# Altium integrated library AQ7538-08UTG.IntLib: 8 symbols
Pins are listed as number, name and electrical type; pins without a type are passive.

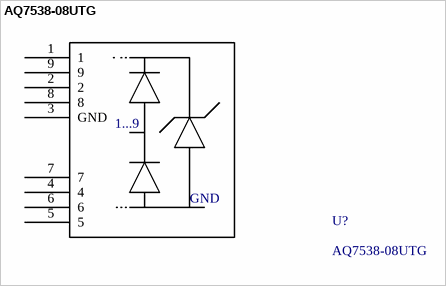
[diagram p0: symbol AQ7538-08UTG]

## AQ7538-08UTG
designator U?
footprint PCBComponent_1
footprint PCBComponent_1
pins: 1, 2, 3 GND, 4, 5, 6, 7, 8, 9
text: 1...9


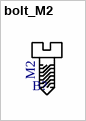
[diagram p1: symbol bolt_M2]

## bolt_M2
designator B?  (value not drawn)
footprint bolt_M2
pins: 20
text: M2


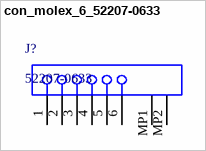
[diagram p2: symbol con_molex_6_52207-0633]

## con_molex_6_52207-0633
designator J?, comment 52207-0633
1.0 mm Pitch Easy-On(TM) Type FPC Connector, 2.7 mm Mated Height, Right Angle, ZIF, SMT, Top Contact, 6 Circuits, -40 to 85 degC, ELV and RoHS Compliant, Tape and Reel; Manufacturer: Molex; PCB Locator: No; Material - Plating Mating: Silver, Tin-Bismuth; Pitch - Termination Interface: 1.00mm; Voltage (Max): 125V; Current (Max per Contact): 1A; Mated Height: 2.70mm; Durability (mating cycles max): 30; PCB Retention: Yes; Material - Metal: Phosphor Bronze; Circuits (Loaded): 6; Entry Angle: 90degrees Angle; Stackable: No; ComponentLink1URL: http://www.molex.com/molex/index.jsp; Packing: Tape and Reel; PackageReference: 52207-0633; Mounting Technology: Surface Mount; Pitch - Mating Interface: 1.00mm; ComponentLink3URL: http://www.molex.com/pdm_docs/sd/522070633_sd.pdf; ComponentLink1Description: Manufacturer URL; RoHS: TRUE; Contact Position: Top; ComponentLink2URL: http://www.molex.com/webdocs/datasheets/pdf/en-us/0522070633_FFC_FPC_CONNECTORS.pdf; ComponentLink3Description: Package Specification; PackageDescription: 6-Lead FPC Connector, Pitch 1.0 mm; PackageVersion: Rev. B, 08/2013; PartNumber: 52207-0633; Number of Rows: 1; Polarized to PCB: Yes; Orientation: Right Angle; ComponentLink2Description: Datasheet; Material - Plating Termination: Silver, Tin-Bismuth
footprint SEB_MOLeX_6p (52207-0633)
pins: 1, 2, 3, 4, 5, 6, MP1, MP2


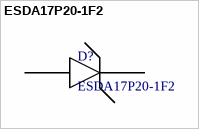
[diagram p3: symbol ESDA17P20-1F2]

## ESDA17P20-1F2
designator D?
footprint ESDA17P20-1F2
pins: 18 A, 19 K


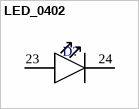
[diagram p4: symbol LED_0402]

## LED_0402
designator D?  (value not drawn)
footprint LED_0402
pins: 23, 24


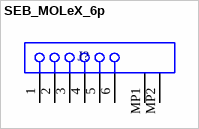
[diagram p5: symbol SEB_MOLeX_6p]

## SEB_MOLeX_6p
designator J?
footprint SEB_MOLeX_6p (52207-0633)
pins: 1, 2, 3, 4, 5, 6, MP1, MP2


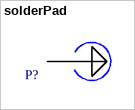
[diagram p6: symbol solderPad]

## solderPad
designator P?  (value not drawn)
footprint solderPad
footprint solderPad_2
pins: 20


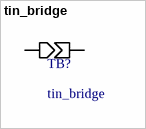
[diagram p7: symbol tin_bridge]

## tin_bridge
designator TB?
footprint tin_bridge
pins: 21, 22